# EAGLE library part CC3100MOD (library bodger)
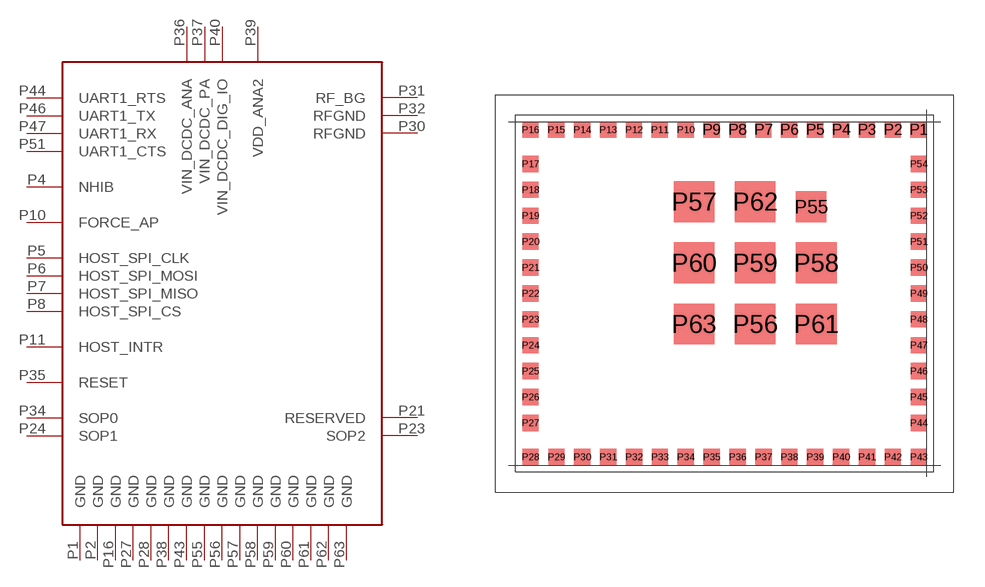
[diagram p42: symbol with the pads of CC3200MOD; footprint CC3200MOD]

Designator prefix -

## CC3100MOD  [CC3200MOD]
P1  GND  pwr
P2  GND  pwr
P4  NHIB  in
P5  HOST_SPI_CLK  in
P6  HOST_SPI_MOSI  in
P7  HOST_SPI_MISO  out
P8  HOST_SPI_CS  in
P10  FORCE_AP  in
P11  HOST_INTR  out
P16  GND  pwr
P21  RESERVED
P23  SOP2
P24  SOP1  in
P27  GND  pwr
P28  GND  pwr
P30  RFGND  pwr
P31  RF_BG  out
P32  RFGND  pwr
P34  SOP0  in
P35  RESET  in
P36  VIN_DCDC_ANA  pwr
P37  VIN_DCDC_PA  pwr
P38  GND  pwr
P39  VDD_ANA2  pwr
P40  VIN_DCDC_DIG_IO  pwr
P43  GND  pwr
P44  UART1_RTS
P46  UART1_TX  out
P47  UART1_RX  in
P51  UART1_CTS
P55  GND  pwr
P56  GND  pwr
P57  GND  pwr
P58  GND  pwr
P59  GND  pwr
P60  GND  pwr
P61  GND  pwr
P62  GND  pwr
P63  GND  pwr

## Footprint CC3200MOD (pad centres in mm)
smd 0.8 x 0.8: P1 9.52,8.025; P2 8.25,8.025; P3 6.98,8.025; P4 5.71,8.025; P5 4.44,8.025; P6 3.17,8.025; P7 1.9,8.025; P8 0.63,8.025; P9 -0.64,8.025; P10 -1.91,8.025; P11 -3.18,8.025; P12 -4.45,8.025; P13 -5.72,8.025; P14 -6.99,8.025; P15 -8.26,8.025; P16 -9.53,8.025; P17 -9.525,6.35; P18 -9.525,5.08; P19 -9.525,3.81; P20 -9.525,2.54; P21 -9.525,1.27; P22 -9.525,0; P23 -9.525,-1.27; P24 -9.525,-2.54; P25 -9.525,-3.81; P26 -9.525,-5.08; P27 -9.525,-6.35; P28 -9.525,-8.02; P29 -8.255,-8.02; P30 -6.985,-8.02; P31 -5.715,-8.02; P32 -4.445,-8.02; P33 -3.175,-8.02; P34 -1.905,-8.02; P35 -0.635,-8.02; P36 0.635,-8.02; P37 1.905,-8.02; P38 3.175,-8.02; P39 4.445,-8.02; P40 5.715,-8.02; P41 6.985,-8.02; P42 8.255,-8.02; P43 9.525,-8.02; P44 9.525,-6.35; P45 9.525,-5.08; P46 9.525,-3.81; P47 9.525,-2.54; P48 9.525,-1.27; P49 9.525,0; P50 9.525,1.27; P51 9.525,2.54; P52 9.525,3.81; P53 9.525,5.08; P54 9.525,6.35
smd 1.5 x 1.5: P55 4.25,4.25
smd 2 x 2: P56 1.5,-1.5; P57 -1.5,4.5; P58 4.5,1.5; P59 1.5,1.5; P60 -1.5,1.5; P61 4.5,-1.5; P62 1.5,4.5; P63 -1.5,-1.5